# Altium schematic symbol library TRANS-EN-SDG.SCHLIB: 1 symbol
Pins are listed as number, name and electrical type; pins without a type are passive.

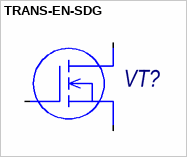
[diagram p0: symbol TRANS-EN-SDG]

## TRANS-EN-SDG
designator VT?
MOSFET
pins: 1 S, 2 D, 3 G